# Altium schematic symbol library SCH - POWER - LINEAR VREG - TI TPS78001_DDC_5.SchLib: 1 symbol
Pins are listed as number, name and electrical type; pins without a type are passive.

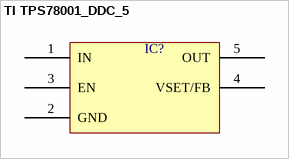
[diagram p0: symbol TI TPS78001_DDC_5]

## TI TPS78001_DDC_5
designator IC?  (value not drawn)
pins: 1 IN, 2 GND, 3 EN, 4 VSET/FB, 5 OUT